# Altium schematic symbol library DC_DC.SchLib: 14 symbols
Pins are listed as number, name and electrical type; pins without a type are passive.

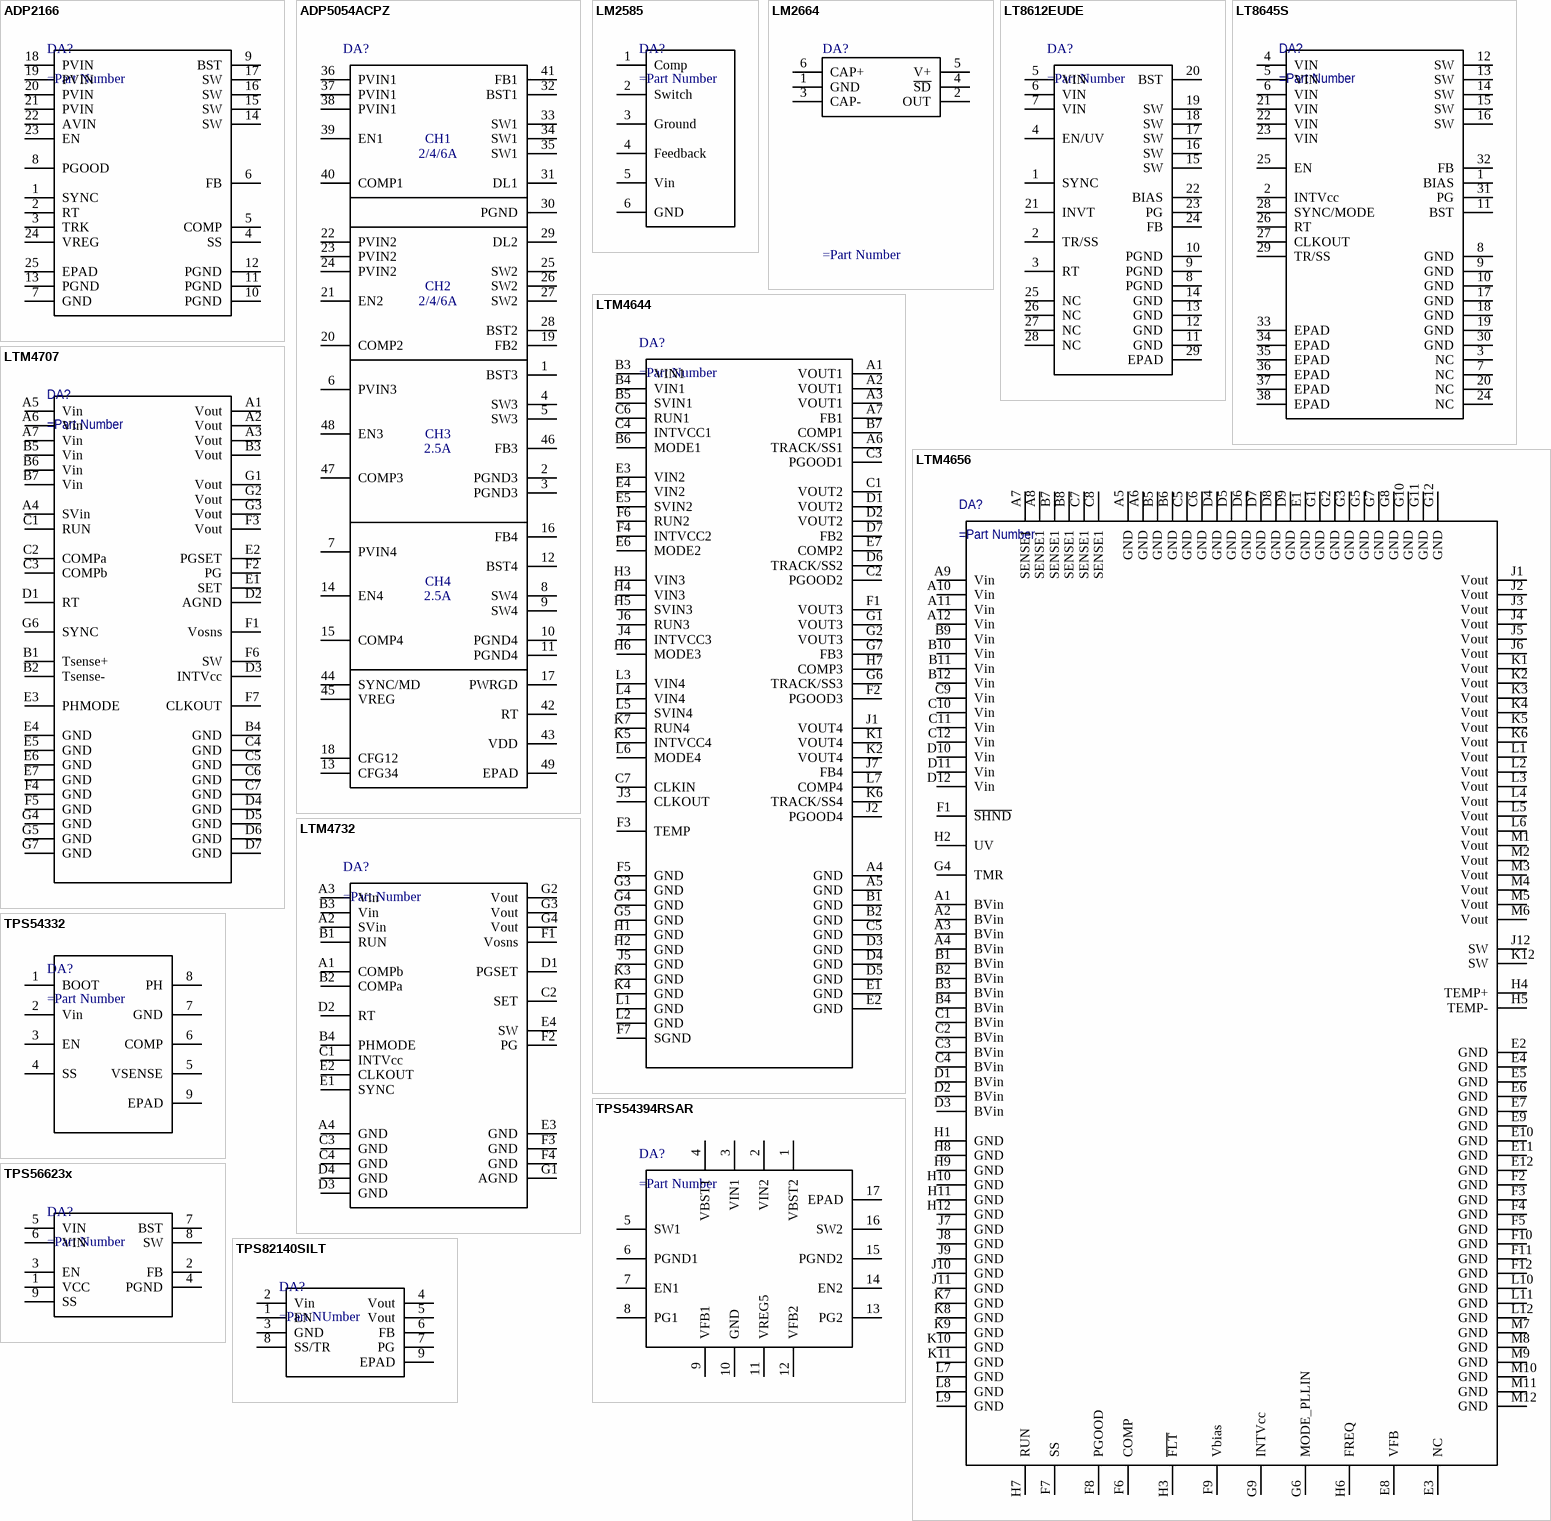
[diagram p0: symbols ADP2166 to TPS82140SILT]

## ADP2166
designator DA?
pins: 1 SYNC, 2 RT, 3 TRK, 4 SS, 5 COMP, 6 FB, 7 GND, 8 PGOOD, 9 BST, 10 PGND, 11 PGND, 12 PGND, 13 PGND, 14 SW, 15 SW, 16 SW, 17 SW, 18 PVIN, 19 PVIN, 20 PVIN, 21 PVIN, 22 AVIN, 23 EN, 24 VREG, 25 EPAD

## ADP5054ACPZ
designator DA?
pins: 1 BST3, 2 PGND3, 3 PGND3, 4 SW3, 5 SW3, 6 PVIN3, 7 PVIN4, 8 SW4, 9 SW4, 10 PGND4, 11 PGND4, 12 BST4, 13 CFG34, 14 EN4, 15 COMP4, 16 FB4, 17 PWRGD, 18 CFG12, 19 FB2, 20 COMP2, 21 EN2, 22 PVIN2, 23 PVIN2, 24 PVIN2, 25 SW2, 26 SW2, 27 SW2, 28 BST2, 29 DL2, 30 PGND, 31 DL1, 32 BST1, 33 SW1, 34 SW1, 35 SW1, 36 PVIN1, 37 PVIN1, 38 PVIN1, 39 EN1, 40 COMP1, 41 FB1, 42 RT, 43 VDD, 44 SYNC/MD, 45 VREG, 46 FB3, 47 COMP3, 48 EN3, 49 EPAD
text: CH1; 2/4/6A; CH2; CH3; 2.5A; CH4

## LM2585
designator DA?
pins: 1 Comp, 2 Switch, 3 Ground, 4 Feedback, 5 Vin, 6 GND

## LM2664
designator DA?
pins: 1 GND, 2 OUT, 3 CAP-, 4 ~{SD}, 5 V+, 6 CAP+

## LT8612EUDE
designator DA?
pins: 1 SYNC, 2 TR/SS, 3 RT, 4 EN/UV, 5 VIN, 6 VIN, 7 VIN, 8 PGND, 9 PGND, 10 PGND, 11 GND, 12 GND, 13 GND, 14 GND, 15 SW, 16 SW, 17 SW, 18 SW, 19 SW, 20 BST, 21 INVT, 22 BIAS, 23 PG, 24 FB, 25 NC, 26 NC, 27 NC, 28 NC, 29 EPAD

## LT8645S
designator DA?
pins: 1 BIAS, 2 INTVcc, 3 NC, 4 VIN, 5 VIN, 6 VIN, 7 NC, 8 GND, 9 GND, 10 GND, 11 BST, 12 SW, 13 SW, 14 SW, 15 SW, 16 SW, 17 GND, 18 GND, 19 GND, 20 NC, 21 VIN, 22 VIN, 23 VIN, 24 NC, 25 EN, 26 RT, 27 CLKOUT, 28 SYNC/MODE, 29 TR/SS, 30 GND, 31 PG, 32 FB, 33 EPAD, 34 EPAD, 35 EPAD, 36 EPAD, 37 EPAD, 38 EPAD

## LTM4644
designator DA?
pins: A1 VOUT1, A2 VOUT1, A3 VOUT1, A4 GND, A5 GND, A6 TRACK/SS1, A7 FB1, B1 GND, B2 GND, B3 VIN1, B4 VIN1, B5 SVIN1, B6 MODE1, B7 COMP1, C1 VOUT2, C2 PGOOD2, C3 PGOOD1, C4 INTVCC1, C5 GND, C6 RUN1, C7 CLKIN, D1 VOUT2, D2 VOUT2, D3 GND, D4 GND, D5 GND, D6 TRACK/SS2, D7 FB2, E1 GND, E2 GND, E3 VIN2, E4 VIN2, E5 SVIN2, E6 MODE2, E7 COMP2, F1 VOUT3, F2 PGOOD3, F3 TEMP, F4 INTVCC2, F5 GND, F6 RUN2, F7 SGND, G1 VOUT3, G2 VOUT3, G3 GND, G4 GND, G5 GND, G6 TRACK/SS3, G7 FB3, H1 GND, H2 GND, H3 VIN3, H4 VIN3, H5 SVIN3, H6 MODE3, H7 COMP3, J1 VOUT4, J2 PGOOD4, J3 CLKOUT, J4 INTVCC3, J5 GND, J6 RUN3, J7 FB4, K1 VOUT4, K2 VOUT4, K3 GND, K4 GND, K5 INTVCC4, K6 TRACK/SS4, K7 RUN4, L1 GND, L2 GND, L3 VIN4, L4 VIN4, L5 SVIN4, L6 MODE4, L7 COMP4

## LTM4656
designator DA?
pins: A1 BVin, A2 BVin, A3 BVin, A4 BVin, A5 GND, A6 GND, A7 SENSE1, A8 SENSE1, A9 Vin, A10 Vin, A11 Vin, A12 Vin, B1 BVin, B2 BVin, B3 BVin, B4 BVin, B5 GND, B6 GND, B7 SENSE1, B8 SENSE1, B9 Vin, B10 Vin, B11 Vin, B12 Vin, C1 BVin, C2 BVin, C3 BVin, C4 BVin, C5 GND, C6 GND, C7 SENSE1, C8 SENSE1, C9 Vin, C10 Vin, C11 Vin, C12 Vin, D1 BVin, D2 BVin, D3 BVin, D4 GND, D5 GND, D6 GND, D7 GND, D8 GND, D9 GND, D10 Vin, D11 Vin, D12 Vin, E1 GND, E2 GND, E3 NC, E4 GND, E5 GND, E6 GND, E7 GND, E8 VFB, E9 GND, E10 GND, E11 GND, E12 GND, F1 ~{SHND}, F2 GND, F3 GND, F4 GND, F5 GND, F6 COMP, F7 SS, F8 PGOOD, F9 Vbias, F10 GND, F11 GND, F12 GND, G1 GND, G2 GND, G3 GND, G4 TMR, G5 GND, G6 MODE_PLLIN, G7 GND, G8 GND, G9 INTVcc, G10 GND, G11 GND, G12 GND, H1 GND, H2 UV, H3 ~{FLT}, H4 TEMP+, H5 TEMP-, H6 FREQ, H7 RUN, H8 GND, H9 GND, H10 GND, H11 GND, H12 GND, J1 Vout, J2 Vout, J3 Vout, J4 Vout, J5 Vout, J6 Vout, J7 GND, J8 GND, J9 GND, J10 GND, J11 GND, J12 SW, K1 Vout, K2 Vout, K3 Vout, K4 Vout, K5 Vout, K6 Vout, K7 GND, K8 GND, K9 GND, K10 GND, K11 GND, K12 SW, L1 Vout, L2 Vout, L3 Vout, L4 Vout, L5 Vout, L6 Vout, L7 GND, L8 GND, L9 GND, L10 GND, L11 GND, L12 GND, M1 Vout, M2 Vout, M3 Vout, M4 Vout, M5 Vout, M6 Vout, M7 GND, M8 GND, M9 GND, M10 GND, M11 GND, M12 GND

## LTM4707
designator DA?
pins: A1 Vout, A2 Vout, A3 Vout, A4 SVin, A5 Vin, A6 Vin, A7 Vin, B1 Tsense+, B2 Tsense-, B3 Vout, B4 GND, B5 Vin, B6 Vin, B7 Vin, C1 RUN, C2 COMPa, C3 COMPb, C4 GND, C5 GND, C6 GND, C7 GND, D1 RT, D2 AGND, D3 INTVcc, D4 GND, D5 GND, D6 GND, D7 GND, E1 SET, E2 PGSET, E3 PHMODE, E4 GND, E5 GND, E6 GND, E7 GND, F1 Vosns, F2 PG, F3 Vout, F4 GND, F5 GND, F6 SW, F7 CLKOUT, G1 Vout, G2 Vout, G3 Vout, G4 GND, G5 GND, G6 SYNC, G7 GND

## LTM4732
designator DA?
pins: A1 COMPb, A2 SVin, A3 Vin, A4 GND, B1 RUN, B2 COMPa, B3 Vin, B4 PHMODE, C1 INTVcc, C2 SET, C3 GND, C4 GND, D1 PGSET, D2 RT, D3 GND, D4 GND, E1 SYNC, E2 CLKOUT, E3 GND, E4 SW, F1 Vosns, F2 PG, F3 GND, F4 GND, G1 AGND, G2 Vout, G3 Vout, G4 Vout

## TPS54332
designator DA?
pins: 1 BOOT, 2 Vin, 3 EN, 4 SS, 5 VSENSE, 6 COMP, 7 GND, 8 PH, 9 EPAD

## TPS54394RSAR
designator DA?
pins: 1 VBST2, 2 VIN2, 3 VIN1, 4 VBST1, 5 SW1, 6 PGND1, 7 EN1, 8 PG1, 9 VFB1, 10 GND, 11 VREG5, 12 VFB2, 13 PG2, 14 EN2, 15 PGND2, 16 SW2, 17 EPAD

## TPS56623x
designator DA?
pins: 1 VCC, 2 FB, 3 EN, 4 PGND, 5 VIN, 6 VIN, 7 BST, 8 SW, 9 SS

## TPS82140SILT
designator DA?
pins: 1 EN, 2 Vin, 3 GND, 4 Vout, 5 Vout, 6 FB, 7 PG, 8 SS/TR, 9 EPAD